# EAGLE library part MOTORSCHUTZSCHALTER_3-POL_MAG_UND_UNTERSPANNUNGS-AUSLOESUNG_HANDBETAETIGT (library e-motorschutzschalter)
Motorschutzschalter mit Fehlerspannungsauslösung
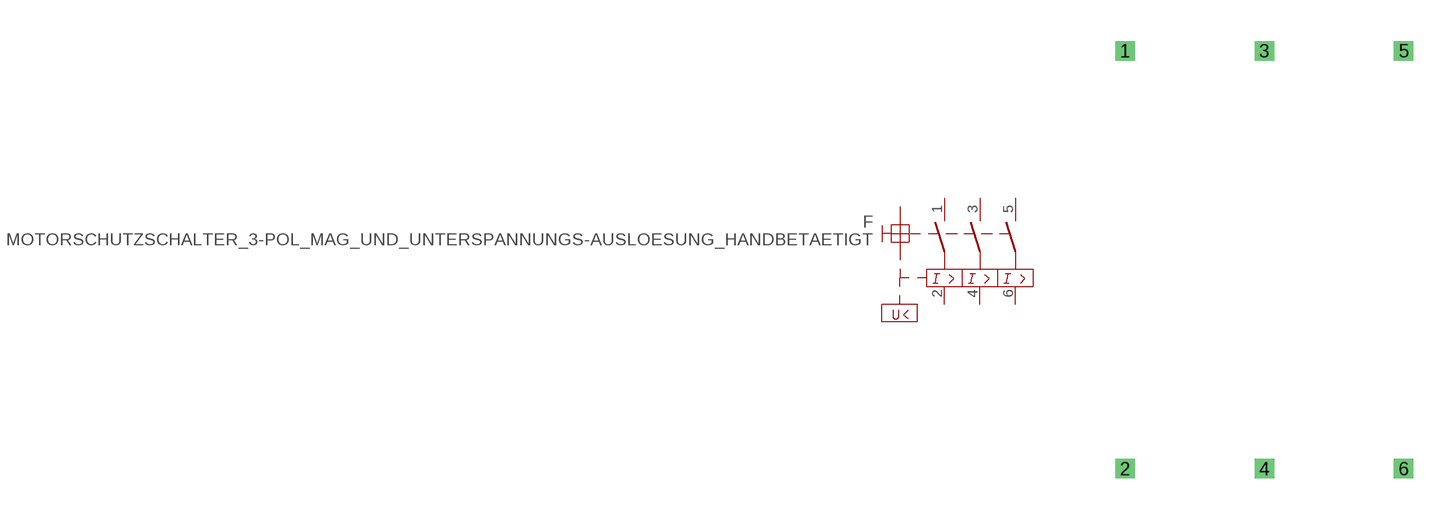
[diagram p10: symbol with the pads of MOTORSCHUTZSCHALTER_3-POL_MAG_UND_UNTERSPANNUNGS-AUSLOESUNG_HANDBETAETIGT; footprint MOTORSCHUTZSCHALTER_3-POL_MAG_UND_UNTERSPANNUNGS-AUSLOESUNG_HANDBETAETIGT]

Designator prefix F

## MOTORSCHUTZSCHALTER_3-POL_MAG_UND_UNTERSPANNUNGS-AUSLOESUNG_HANDBETAETIGT  [MOTORSCHUTZSCHALTER_3-POL_MAG_UND_UNTERSPANNUNGS-AUSLOESUNG_HANDBETAETIGT]
1  1  pas
2  2  pas
3  3  pas
4  4  pas
5  5  pas
6  6  pas

## Footprint MOTORSCHUTZSCHALTER_3-POL_MAG_UND_UNTERSPANNUNGS-AUSLOESUNG_HANDBETAETIGT (pad centres in mm)
Dummy
drill 0.2 pad 0.6 square: 1 0,5.08; 2 0,-10.16; 3 5.08,5.08; 4 5.08,-10.16; 5 10.16,5.08; 6 10.16,-10.16